# Altium schematic symbol library tyco-hpi.SchLib: 19 symbols
Pins are listed as number, name and electrical type; pins without a type are passive.

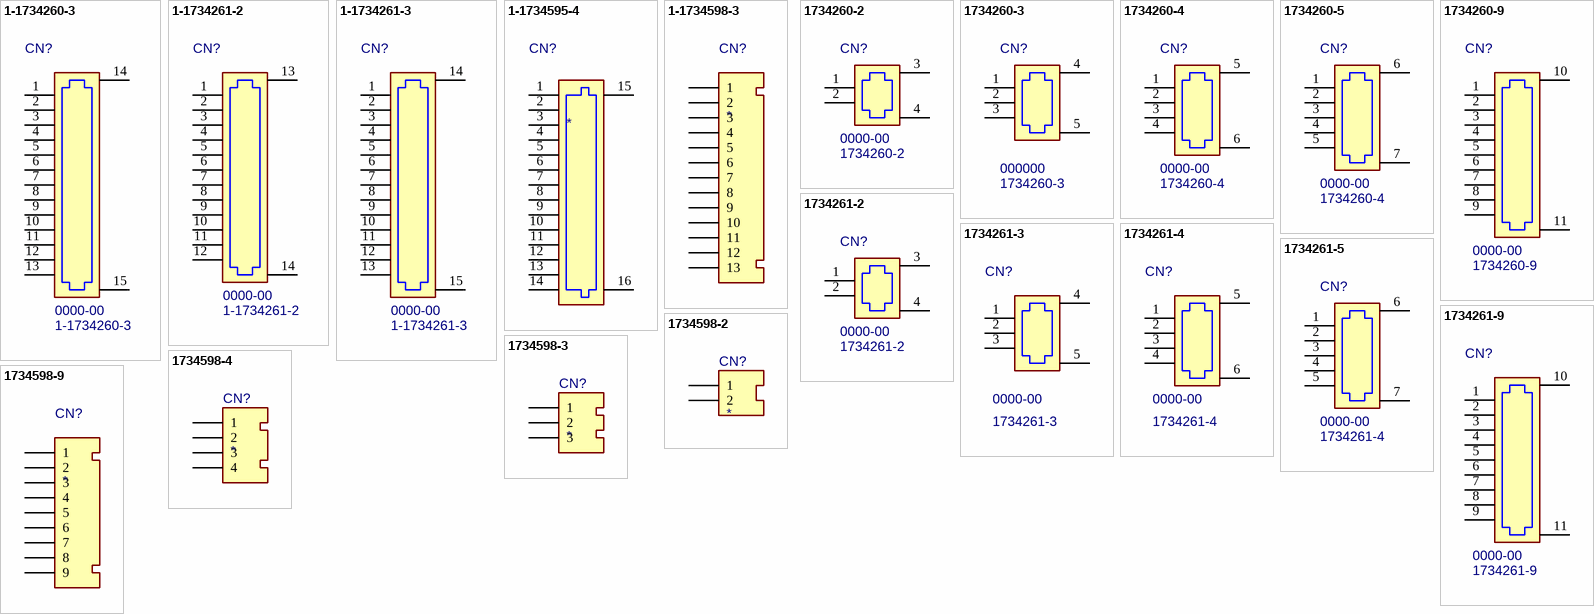
[diagram p0: symbols 1-1734260-3 to 1734598-9]

## 1-1734260-3
designator CN?, comment 0000-00  value 1-1734260-3
13pos, 1.25mm Wire to Board Connector, Header, SMT,  Vertical; PN: 0000-00; Package: *; ExtraInfo: *
footprint 1-1734260-3 (13pos, 1.25mm Wire to Board Connector, Header, SMT, Vertical)
pins: 1, 2, 3, 4, 5, 6, 7, 8, 9, 10, 11, 12, 13, 14 TAB, 15 TAB

## 1-1734261-2
designator CN?, comment 0000-00  value 1-1734261-2
12pos, 1.25mm Wire to Board Connector, Header, SMT, Right Angle; PN: 0000-00; Package: *; ExtraInfo: *
footprint 1-1734261-2 (12pos, 1.25mm Wire to Board Connector, Header, SMT, Right Angle)
pins: 1, 2, 3, 4, 5, 6, 7, 8, 9, 10, 11, 12, 13 TAB, 14 TAB

## 1-1734261-3
designator CN?, comment 0000-00  value 1-1734261-3
13pos, 1.25mm Wire to Board Connector, Header, SMT, Right Angle; PN: 0000-00; Package: *; ExtraInfo: *
footprint 1-1734261-3 (13pos, 1.25mm Wire to Board Connector, Header, SMT, Right Angle)
pins: 1, 2, 3, 4, 5, 6, 7, 8, 9, 10, 11, 12, 13, 14 TAB, 15 TAB

## 1-1734595-4
designator CN?
14pos, 1.00mm Wire to Board Connector, Header, SMT, Vertical; PN: *; Value: *; Package: *; ExtraInfo: *
footprint 1-1734595-4 (14pos, 1.00mm Wire to Board Connector, Header, SMT, Vertical)
pins: 1, 2, 3, 4, 5, 6, 7, 8, 9, 10, 11, 12, 13, 14, 15 TAB, 16 TAB

## 1-1734598-3
designator CN?
1.25mm Wire to Board Connector; ExtraInfo: *; Value: *; Package: *; PN: *
footprint 1-1734598-3 (1.25mm Wire to Board Connector)
pins: 1, 2, 3, 4, 5, 6, 7, 8, 9, 10, 11, 12, 13

## 1734260-2
designator CN?, comment 0000-00  value 1734260-2
2pos, 1.25mm Wire to Board Connector, Header, SMT, Vertical; PN: 0000-00; Package: SMT; ExtraInfo: *
footprint 1734260-2 (2pos, 1.25mm Wire to Board Connector, Header, SMT, Vertical)
pins: 1, 2, 3 TAB, 4 TAB

## 1734260-3
designator CN?, comment 000000  value 1734260-3
3pos, 1.25mm Wire to Board Connector, Header, SMT, Vertical; PN: 000000; Package: SMT; ExtraInfo: *
footprint 1734260-3 (3pos, 1.25mm Wire to Board Connector, Header, SMT, Vertical)
pins: 1, 2, 3, 4 TAB, 5 TAB

## 1734260-4
designator CN?, comment 0000-00  value 1734260-4
4pos, 1.25mm Wire to Board Connector, Header, SMT, Vertical; PN: 0000-00; Package: *; ExtraInfo: *
footprint 1734260-4 (4pos, 1.25mm Wire to Board Connector, Header, SMT, Vertical)
pins: 1, 2, 3, 4, 5 TAB, 6 TAB

## 1734260-5
designator CN?, comment 0000-00  value 1734260-4
4pos, 1.25mm Wire to Board Connector, Header, SMT, Vertical; PN: 0000-00; ExtraInfo: *; Package: *
footprint 1734260-5 (5pos, 1.25mm Wire to Board Connector, Header, SMT, Vertical)
pins: 1, 2, 3, 4, 5, 6 TAB, 7 TAB

## 1734260-9
designator CN?, comment 0000-00  value 1734260-9
9pos, 1.25mm Wire to Board Connector, Header, SMT, Right Angle; PN: 0000-00; ExtraInfo: *; Package: *
footprint 1734260-9 (9pos, 1.25mm Wire to Board Connector, Header, SMT, Vertical)
pins: 1, 2, 3, 4, 5, 6, 7, 8, 9, 10 TAB, 11 TAB

## 1734261-2
designator CN?, comment 0000-00  value 1734261-2
2pos, 1.25mm Wire to Board Connector, Header, SMT, Vertical; PN: 0000-00; Package: SMT; ExtraInfo: *
footprint 1734261-2 (2pos, 1.25mm Wire to Board Connector, Header, SMT, Right Angle)
pins: 1, 2, 3 TAB, 4 TAB

## 1734261-3
designator CN?, comment 0000-00  value 1734261-3
3pos, 1.25mm Wire to Board Connector, Header, SMT, Right Angle; PN: 0000-00; Package: *; ExtraInfo: *
footprint 1734261-3 (3pos, 1.25mm Wire to Board Connector, Header, SMT, Right Angle)
pins: 1, 2, 3, 4 TAB, 5 TAB

## 1734261-4
designator CN?, comment 0000-00  value 1734261-4
4pos, 1.25mm Wire to Board Connector, Header, SMT, Right Angle; PN: 0000-00; ExtraInfo: *; Package: *
footprint 1734261-4 (4pos, 1.25mm Wire to Board Connector, Header, SMT, Right Angle)
pins: 1, 2, 3, 4, 5 TAB, 6 TAB

## 1734261-5
designator CN?, comment 0000-00  value 1734261-4
4pos, 1.25mm Wire to Board Connector, Header, SMT, Vertical; PN: 0000-00; Package: *; ExtraInfo: *
footprint 1734261-5 (5pos, 1.25mm Wire to Board Connector, Header, SMT, Right Angle)
pins: 1, 2, 3, 4, 5, 6 TAB, 7 TAB

## 1734261-9
designator CN?, comment 0000-00  value 1734261-9
9pos, 1.25mm Wire to Board Connector, Header, SMT, Right Angle; PN: 0000-00; ExtraInfo: *; Package: *
footprint 1734261-9 (9pos, 1.25mm Wire to Board Connector, Header, SMT, Right Angle)
pins: 1, 2, 3, 4, 5, 6, 7, 8, 9, 10 TAB, 11 TAB

## 1734598-2
designator CN?
1.25mm Wire to Board Connector; PN: *; Value: *; Package: *; ExtraInfo: *
footprint 1734829-2 (1.25mm Wire to Board Connector Right Angle)
footprint 1734598-2 (1.25mm Wire to Board Connector)
pins: 1, 2

## 1734598-3
designator CN?
1.25mm Wire to Board Connector; PN: *; Value: *; ExtraInfo: *; Package: *
footprint 1734598-3 (1.25mm Wire to Board Connector)
pins: 1, 2, 3

## 1734598-4
designator CN?
1.25mm Wire to Board Connector; PN: *; Package: *; Value: *; ExtraInfo: *
footprint 1734598-4 (1.25mm Wire to Board Connector)
footprint 1734829-4 (1.25mm Wire to Board Connector)
pins: 1, 2, 3, 4

## 1734598-9
designator CN?
1.25mm Wire to Board Connector; PN: *; ExtraInfo: *; Value: *; Package: *
footprint 1734598-9 (1.25mm Wire to Board Connector)
footprint 1734829-9 (1.25mm Wire to Board Connector)
pins: 1, 2, 3, 4, 5, 6, 7, 8, 9